# Altium footprint library diodes.PcbLib: 33 footprints (part 1 of 3)
Each footprint in its own frame and in the unit in brackets; x right, y up, seen from the top. Pads: shape width x height; smd on the part's side, far side on the other; paste and mask are expansions set on the pad; w line width, h text height; cw(c..) or ccw(c..) is an arc to the next point about the centre after c.
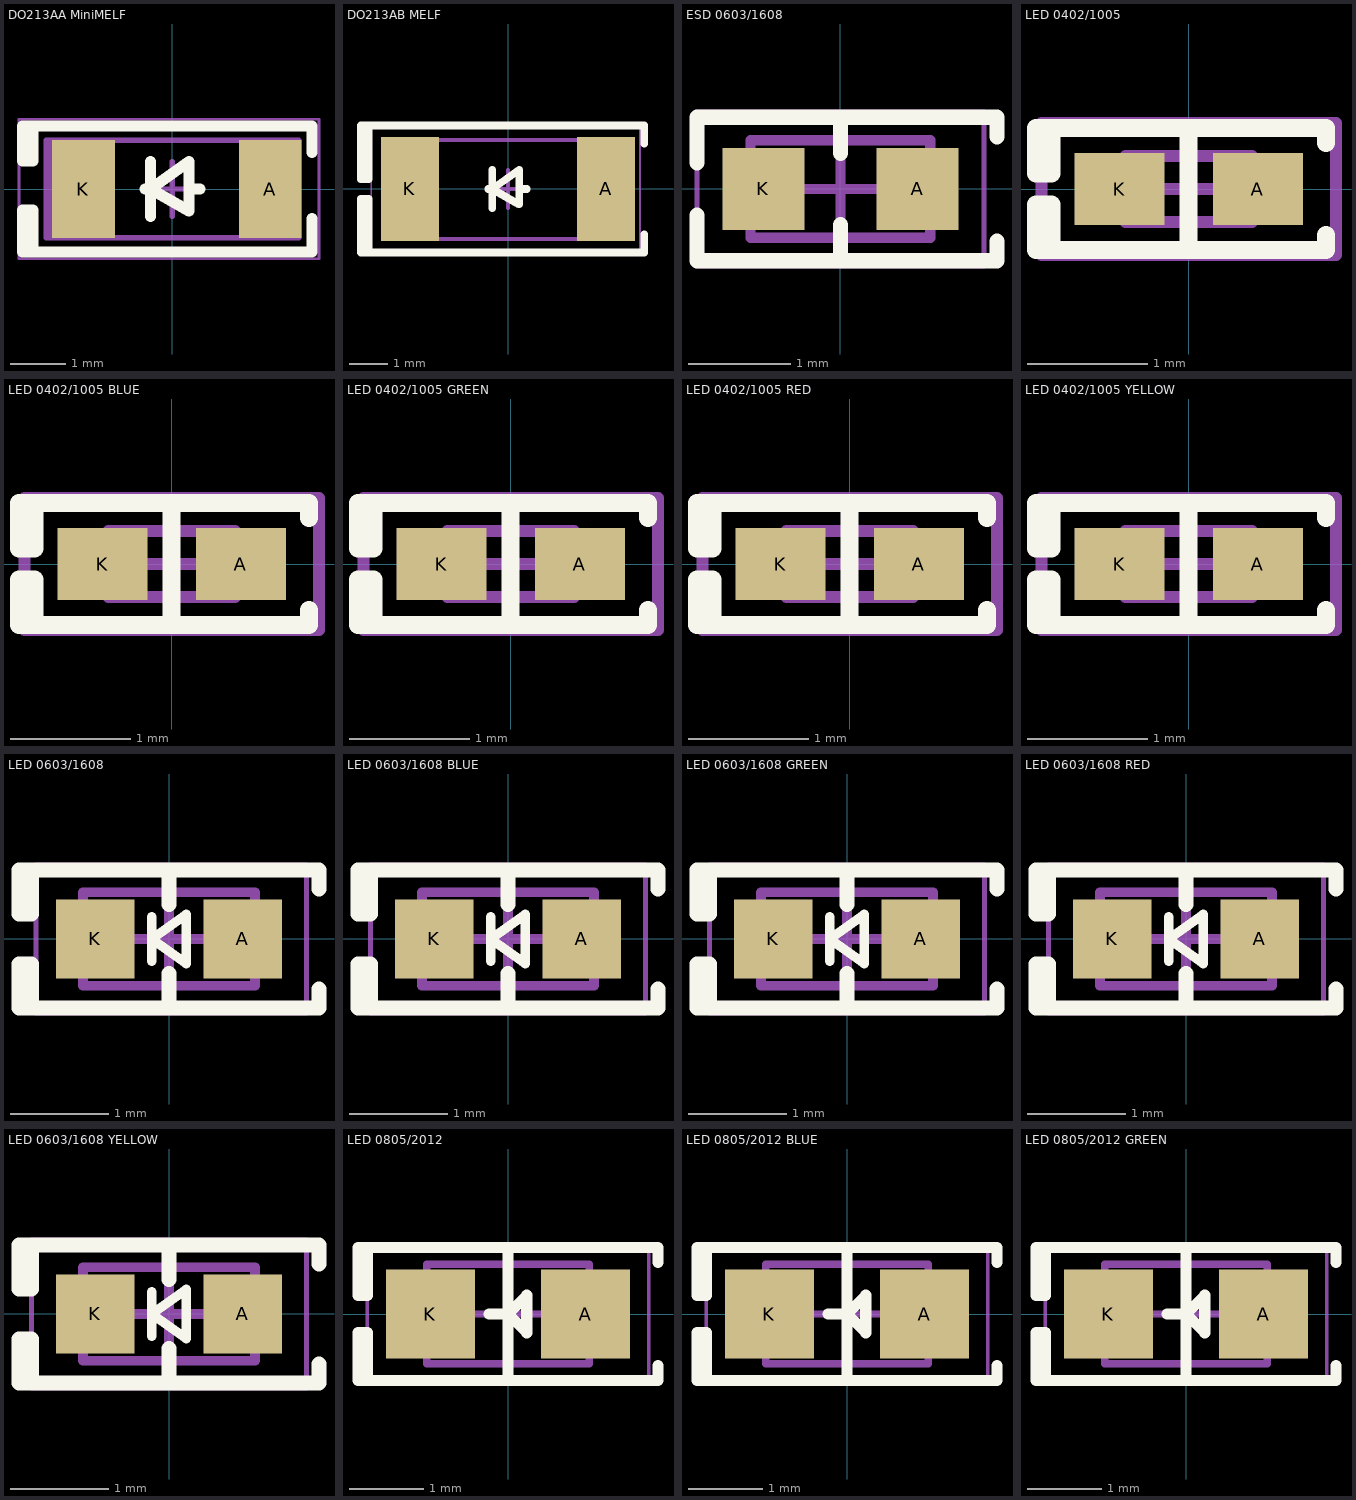
[diagram p0: the footprints below, top view; thin cyan lines are the x and y axes]

## DO213AA MiniMELF [mil]
pads (2):
  rect 45x70 smd: A(70,0) K(-63.86,0)
Top Overlay:
  lines w7.87: -100,-40 -100,-15 -107.64,-15 -107.64,-45 100,-45 100,-21.26 ; -100.01,45 -100.01,20 -107.64,20 -107.64,45 100,45 100,26.26 ; -19.68,0 -15.74,0 ; -15.74,-19.68 -15.74,19.68 ; 11.81,0 19.69,0 ; -15.74,0 11.81,19.68 11.81,-15.75 -15.74,0
Mechanical 13:
  region: -66.19,35 -90.55,35 -90.55,-35 -66.19,-35
  lines w3.94: -90.55,-35 90.55,-35 90.55,35 -90.55,35 -90.55,-35
Mechanical 15:
  lines w1.97: -110,-50 105,-50 105,50 -110,50 -110,-50
  lines w3.94: -19.68,0 19.69,0 ; 0,-19.68 0,19.69
3D body "MiniMelfDiode.stp": height 64.27, standoff 1.48, extent -72.84,-31.39 72.84,31.39

## DO213AB MELF [mm]
pads (2):
  rect 1.5x2.7 smd: A(2.55,0) K(-2.55,0)
Top Overlay:
  lines w0.2: -3.626,-1.651 -3.626,-0.254 -3.82,-0.254 -3.82,-1.651 3.546,-1.651 3.546,-1.175 ; -3.626,1.651 -3.626,0.254 -3.82,0.254 -3.82,1.651 3.546,1.651 3.546,1.175 ; -0.51,0 -0.41,0 ; -0.41,-0.5 -0.41,0.5 ; 0.29,0 0.49,0 ; -0.41,0 0.29,0.5 0.29,-0.4 -0.41,0
Mechanical 13:
  region: -2.118,1.27 -2.737,1.27 -2.737,-1.3 -2.118,-1.3
  lines w0.1: -2.737,-1.3 -2.737,1.27 2.463,1.27 2.463,-1.3 -2.737,-1.3
Mechanical 15:
  lines w0.05: -3.556,-1.651 -3.556,1.651 3.429,1.651 3.429,-1.651 -3.556,-1.651
  lines w0.1: -0.5,0 0.5,0 ; 0,-0.5 0,0.5
3D body "MelfDiode.stp": height 2.64, standoff 0.04, extent -2.737,-1.3 2.463,1.3

## ESD 0603/1608 [mm] "Chip Diode, 2-Leads, Body 1.60x0.80mm, IPC Medium Density"
height 0.45
pads (2):
  rect 0.8x0.8 smd: A(0.75,0) K(-0.75,0)
Top Overlay:
  lines w0.15: -1.397,-0.254 -1.397,-0.7 1.524,-0.7 1.524,-0.508 ; -1.397,0.254 -1.397,0.7 1.524,0.7 1.524,0.508 ; 0,-0.7 0,-0.35 ; 0,0.35 0,0.7
Mechanical 13:
  lines w0.1: -0.875,-0.475 -0.875,0.475 0.875,0.475 0.875,-0.475 -0.875,-0.475
Mechanical 15:
  lines w0.05: -1.397,-0.75 -1.397,0.75 1.397,0.75 1.397,-0.75 -1.397,-0.75
  lines w0.1: -0.475,0 0.475,0 ; 0,-0.475 0,0.475
3D body "FER 0603.STEP": height 0.82, standoff 0, extent -0.8,-0.412 0.8,0.412

## LED 0402/1005 [mm] "Chip Diode, 2-Leads, Body 1.00x0.50mm, IPC Medium Density"
height 0.25
pads (2):
  rect 0.75x0.6 smd: A(0.575,0) K(-0.575,0)
Top Overlay:
  lines w0.15: 0,-0.508 0,0.508 ; 1.143,-0.381 1.143,-0.508 -1.143,-0.508 ; 1.143,0.381 1.143,0.508 -1.143,0.508 ; -1.143,-0.508 -1.27,-0.508 -1.27,-0.127 -1.143,-0.127 -1.143,-0.508 ; -1.143,0.508 -1.27,0.508 -1.27,0.127 -1.143,0.127 -1.143,0.508
Mechanical 13:
  lines w0.1: -0.525,-0.275 -0.525,0.275 0.525,0.275 0.525,-0.275 -0.525,-0.275
Mechanical 15:
  lines w0.1: -0.275,0 0.275,0 ; 0,-0.275 0,0.275 ; -1.225,-0.55 -1.225,0.55 1.225,0.55 1.225,-0.55 -1.225,-0.55
3D body "LED 0402 Lens WHITE.STEP": height 0.21, standoff 0.08, extent -0.35,-0.25 0.35,0.25
3D body "LED 0402 Base WHITE.STEP": height 0.1, standoff 0, extent -0.5,-0.25 0.5,0.25

## LED 0402/1005 BLUE [mm] "Chip Diode, 2-Leads, Body 1.00x0.50mm, IPC Medium Density"
height 0.25
pads (2):
  rect 0.75x0.6 smd: A(0.575,0) K(-0.575,0)
Top Overlay:
  lines w0.15: 0,-0.508 0,0.508 ; 1.143,-0.381 1.143,-0.508 -1.143,-0.508 ; 1.143,0.381 1.143,0.508 -1.143,0.508 ; -1.143,-0.508 -1.27,-0.508 -1.27,-0.127 -1.143,-0.127 -1.143,-0.508 ; -1.143,0.508 -1.27,0.508 -1.27,0.127 -1.143,0.127 -1.143,0.508
Mechanical 13:
  lines w0.1: -0.525,-0.275 -0.525,0.275 0.525,0.275 0.525,-0.275 -0.525,-0.275
Mechanical 15:
  lines w0.1: -0.275,0 0.275,0 ; 0,-0.275 0,0.275 ; -1.225,-0.55 -1.225,0.55 1.225,0.55 1.225,-0.55 -1.225,-0.55
3D body "LED 0402 Lens BLUE.STEP": height 0.21, standoff 0.08, extent -0.35,-0.25 0.35,0.25
3D body "LED 0402 Base BLUE.STEP": height 0.1, standoff 0, extent -0.5,-0.25 0.5,0.25

## LED 0402/1005 GREEN [mm] "Chip Diode, 2-Leads, Body 1.00x0.50mm, IPC Medium Density"
height 0.25
pads (2):
  rect 0.75x0.6 smd: A(0.575,0) K(-0.575,0)
Top Overlay:
  lines w0.15: 0,-0.508 0,0.508 ; 1.143,-0.381 1.143,-0.508 -1.143,-0.508 ; 1.143,0.381 1.143,0.508 -1.143,0.508 ; -1.143,-0.508 -1.143,-0.127 -1.27,-0.127 -1.27,-0.508 -1.143,-0.508 ; -1.143,0.508 -1.143,0.127 -1.27,0.127 -1.27,0.508 -1.143,0.508
Mechanical 13:
  lines w0.1: -0.525,-0.275 0.525,-0.275 0.525,0.275 -0.525,0.275 -0.525,-0.275
Mechanical 15:
  lines w0.1: -0.275,0 0.275,0 ; 0,-0.275 0,0.275 ; -1.225,-0.55 1.225,-0.55 1.225,0.55 -1.225,0.55 -1.225,-0.55
3D body "LED 0402 Base GREEN.STEP": height 0.1, standoff 0, extent -0.5,-0.25 0.5,0.25
3D body "LED 0402 Lens GREEN.STEP": height 0.21, standoff 0.08, extent -0.35,-0.25 0.35,0.25

## LED 0402/1005 RED [mm] "Chip Diode, 2-Leads, Body 1.00x0.50mm, IPC Medium Density"
height 0.25
pads (2):
  rect 0.75x0.6 smd: A(0.575,0) K(-0.575,0)
Top Overlay:
  lines w0.15: 0,-0.508 0,0.508 ; 1.143,-0.381 1.143,-0.508 -1.143,-0.508 ; 1.143,0.381 1.143,0.508 -1.143,0.508 ; -1.143,-0.508 -1.143,-0.127 -1.27,-0.127 -1.27,-0.508 -1.143,-0.508 ; -1.143,0.508 -1.143,0.127 -1.27,0.127 -1.27,0.508 -1.143,0.508
Mechanical 13:
  lines w0.1: -0.525,-0.275 0.525,-0.275 0.525,0.275 -0.525,0.275 -0.525,-0.275
Mechanical 15:
  lines w0.1: -0.275,0 0.275,0 ; 0,-0.275 0,0.275 ; -1.225,-0.55 1.225,-0.55 1.225,0.55 -1.225,0.55 -1.225,-0.55
3D body "LED 0402 Base RED.STEP": height 0.1, standoff 0, extent -0.5,-0.25 0.5,0.25
3D body "LED 0402 Lens RED.STEP": height 0.21, standoff 0.08, extent -0.35,-0.25 0.35,0.25

## LED 0402/1005 YELLOW [mm] "Chip Diode, 2-Leads, Body 1.00x0.50mm, IPC Medium Density"
height 0.25
pads (2):
  rect 0.75x0.6 smd: A(0.575,0) K(-0.575,0)
Top Overlay:
  lines w0.15: 0,-0.508 0,0.508 ; 1.143,-0.381 1.143,-0.508 -1.143,-0.508 ; 1.143,0.381 1.143,0.508 -1.143,0.508 ; -1.143,-0.508 -1.27,-0.508 -1.27,-0.127 -1.143,-0.127 -1.143,-0.508 ; -1.143,0.508 -1.27,0.508 -1.27,0.127 -1.143,0.127 -1.143,0.508
Mechanical 13:
  lines w0.1: -0.525,-0.275 -0.525,0.275 0.525,0.275 0.525,-0.275 -0.525,-0.275
Mechanical 15:
  lines w0.1: -0.275,0 0.275,0 ; 0,-0.275 0,0.275 ; -1.225,-0.55 -1.225,0.55 1.225,0.55 1.225,-0.55 -1.225,-0.55
3D body "LED 0402 Lens YELLOW.STEP": height 0.21, standoff 0.08, extent -0.35,-0.25 0.35,0.25
3D body "LED 0402 Base YELLOW.STEP": height 0.1, standoff 0, extent -0.5,-0.25 0.5,0.25

## LED 0603/1608 [mm] "Chip Diode, 2-Leads, Body 1.60x0.80mm, IPC Medium Density"
height 0.45
pads (2):
  rect 0.8x0.8 smd: A(0.75,0) K(-0.75,0)
Top Overlay:
  lines w0.1: -0.175,-0.225 -0.175,0 ; -0.175,0.225 -0.175,0 ; -0.175,0 0.175,0.25 0.175,0 0.175,-0.25 -0.175,0
  lines w0.15: -1.5,-0.7 1.524,-0.7 1.524,-0.508 ; -1.5,0.7 1.524,0.7 1.524,0.508 ; 0,-0.7 0,-0.35 ; 0,0.35 0,0.7 ; -1.524,-0.7 -1.397,-0.7 -1.397,-0.254 -1.524,-0.254 -1.524,-0.7 ; -1.524,0.254 -1.524,0.7 -1.397,0.7 -1.397,0.254 -1.524,0.254
Mechanical 13:
  lines w0.1: -0.875,-0.475 0.875,-0.475 0.875,0.475 -0.875,0.475 -0.875,-0.475
Mechanical 15:
  lines w0.05: -1.35,-0.75 1.397,-0.75 1.397,0.75 -1.35,0.75 -1.35,-0.75
  lines w0.1: -0.475,0 0.475,0 ; 0,-0.475 0,0.475
3D body "LED 0603 Base WHITE.STEP": height 0.28, standoff 0, extent -0.8,-0.4 0.8,0.4
3D body "LED 0603 Lens WHITE.STEP": height 0.53, standoff 0.18, extent -0.55,-0.4 0.55,0.4

## LED 0603/1608 BLUE [mm] "Chip Diode, 2-Leads, Body 1.60x0.80mm, IPC Medium Density"
height 0.45
pads (2):
  rect 0.8x0.8 smd: A(0.75,0) K(-0.75,0)
Top Overlay:
  lines w0.1: -0.175,-0.225 -0.175,0 ; -0.175,0.225 -0.175,0 ; -0.175,0 0.175,-0.25 0.175,0 0.175,0.25 -0.175,0
  lines w0.15: -1.5,-0.7 1.524,-0.7 1.524,-0.508 ; -1.5,0.7 1.524,0.7 1.524,0.508 ; 0,-0.7 0,-0.35 ; 0,0.35 0,0.7 ; -1.524,-0.7 -1.524,-0.254 -1.397,-0.254 -1.397,-0.7 -1.524,-0.7 ; -1.524,0.254 -1.397,0.254 -1.397,0.7 -1.524,0.7 -1.524,0.254
Mechanical 13:
  lines w0.1: -0.875,-0.475 -0.875,0.475 0.875,0.475 0.875,-0.475 -0.875,-0.475
Mechanical 15:
  lines w0.05: -1.397,-0.75 -1.397,0.75 1.397,0.75 1.397,-0.75 -1.397,-0.75
  lines w0.1: -0.475,0 0.475,0 ; 0,-0.475 0,0.475
3D body "LED 0603 Lens BLUE.STEP": height 0.53, standoff 0.18, extent -0.55,-0.4 0.55,0.4
3D body "LED 0603 Base BLUE.STEP": height 0.28, standoff 0, extent -0.8,-0.4 0.8,0.4

## LED 0603/1608 GREEN [mm] "Chip Diode, 2-Leads, Body 1.60x0.80mm, IPC Medium Density"
height 0.45
pads (2):
  rect 0.8x0.8 smd: A(0.75,0) K(-0.75,0)
Top Overlay:
  lines w0.1: -0.175,-0.225 -0.175,0 ; -0.175,0.225 -0.175,0 ; -0.175,0 0.175,-0.25 0.175,0 0.175,0.25 -0.175,0
  lines w0.15: -1.5,-0.7 1.524,-0.7 1.524,-0.508 ; -1.5,0.7 1.524,0.7 1.524,0.508 ; 0,-0.7 0,-0.35 ; 0,0.35 0,0.7 ; -1.524,-0.7 -1.397,-0.7 -1.397,-0.254 -1.524,-0.254 -1.524,-0.7 ; -1.524,0.254 -1.524,0.7 -1.397,0.7 -1.397,0.254 -1.524,0.254
Mechanical 13:
  lines w0.1: -0.875,-0.475 0.875,-0.475 0.875,0.475 -0.875,0.475 -0.875,-0.475
Mechanical 15:
  lines w0.05: -1.397,-0.75 1.397,-0.75 1.397,0.75 -1.397,0.75 -1.397,-0.75
  lines w0.1: -0.475,0 0.475,0 ; 0,-0.475 0,0.475
3D body "LED 0603 Base GREEN.STEP": height 0.28, standoff 0, extent -0.8,-0.4 0.8,0.4
3D body "LED 0603 Lens GREEN.STEP": height 0.53, standoff 0.18, extent -0.55,-0.4 0.55,0.4

## LED 0603/1608 RED [mm] "Chip Diode, 2-Leads, Body 1.60x0.80mm, IPC Medium Density"
height 0.45
pads (2):
  rect 0.8x0.8 smd: A(0.75,0) K(-0.75,0)
Top Overlay:
  lines w0.1: -0.175,-0.225 -0.175,0 ; -0.175,0.225 -0.175,0 ; -0.175,0 0.175,-0.25 0.175,0 0.175,0.25 -0.175,0
  lines w0.15: -1.5,-0.7 1.524,-0.7 1.524,-0.508 ; -1.5,0.7 1.524,0.7 1.524,0.508 ; 0,-0.7 0,-0.35 ; 0,0.35 0,0.7 ; -1.524,-0.7 -1.524,-0.254 -1.397,-0.254 -1.397,-0.7 -1.524,-0.7 ; -1.524,0.254 -1.397,0.254 -1.397,0.7 -1.524,0.7 -1.524,0.254
Mechanical 13:
  lines w0.1: -0.875,-0.475 -0.875,0.475 0.875,0.475 0.875,-0.475 -0.875,-0.475
Mechanical 15:
  lines w0.05: -1.397,-0.75 -1.397,0.75 1.397,0.75 1.397,-0.75 -1.397,-0.75
  lines w0.1: -0.475,0 0.475,0 ; 0,-0.475 0,0.475
3D body "LED 0603 Lens RED.STEP": height 0.53, standoff 0.18, extent -0.55,-0.4 0.55,0.4
3D body "LED 0603 Base RED.STEP": height 0.28, standoff 0, extent -0.8,-0.4 0.8,0.4

## LED 0603/1608 YELLOW [mm] "Chip Diode, 2-Leads, Body 1.60x0.80mm, IPC Medium Density"
height 0.45
pads (2):
  rect 0.8x0.8 smd: A(0.75,0) K(-0.75,0)
Top Overlay:
  lines w0.1: -0.175,-0.225 -0.175,0 ; -0.175,0.225 -0.175,0 ; -0.175,0 0.175,0.25 0.175,0 0.175,-0.25 -0.175,0
  lines w0.15: -1.5,-0.7 1.524,-0.7 1.524,-0.508 ; -1.4,0.7 1.524,0.7 1.524,0.508 ; 0,-0.7 0,-0.35 ; 0,0.35 0,0.7 ; -1.524,-0.7 -1.397,-0.7 -1.397,-0.254 -1.524,-0.254 -1.524,-0.7 ; -1.524,0.254 -1.524,0.7 -1.397,0.7 -1.397,0.254 -1.524,0.254
Mechanical 13:
  lines w0.1: -0.875,-0.475 0.875,-0.475 0.875,0.475 -0.875,0.475 -0.875,-0.475
Mechanical 15:
  lines w0.05: -1.397,-0.75 1.397,-0.75 1.397,0.75 -1.397,0.75 -1.397,-0.75
  lines w0.1: -0.475,0 0.475,0 ; 0,-0.475 0,0.475
3D body "LED 0603 Base YELLOW.STEP": height 0.28, standoff 0, extent -0.8,-0.4 0.8,0.4
3D body "LED 0603 Lens YELLOW.STEP": height 0.53, standoff 0.18, extent -0.55,-0.4 0.55,0.4

## LED 0805/2012 [mm] "Chip Diode, 2-Leads, Body 2.00x1.25mm, IPC Medium Density"
height 0.7
pads (2):
  rect 1.2x1.2 smd: A(1.05,0) K(-1.05,0)
Top Overlay:
  lines w0.15: -0.254,0 0,0 ; 0,-0.9 0,0.9 ; 2.032,-0.7 2.032,-0.9 -1.905,-0.9 ; 2.032,0.7 2.032,0.9 -1.905,0.9 ; -1.905,-0.9 -1.905,-0.254 -2.032,-0.254 -2.032,-0.9 -1.905,-0.9 ; -1.905,0.9 -1.905,0.254 -2.032,0.254 -2.032,0.9 -1.905,0.9 ; 0,0 0.254,0.254 0.254,-0.254 0,0
Mechanical 13:
  lines w0.1: -1.1,-0.675 1.1,-0.675 1.1,0.675 -1.1,0.675 -1.1,-0.675
Mechanical 15:
  lines w0.05: -1.905,-0.95 1.905,-0.95 1.905,0.95 -1.905,0.95 -1.905,-0.95
  lines w0.1: -0.5,0 0.5,0 ; 0,-0.5 0,0.5
3D body "LED 0805 Base WHITE.STEP": height 0.4, standoff 0, extent -1,-0.625 1,0.625
3D body "LED 0805 Lens WHITE.STEP": height 0.9, standoff 0.3, extent -0.65,-0.625 0.65,0.625

## LED 0805/2012 BLUE [mm] "Chip Diode, 2-Leads, Body 2.00x1.25mm, IPC Medium Density"
height 0.7
pads (2):
  rect 1.2x1.2 smd: A(1.05,0) K(-1.05,0)
Top Overlay:
  lines w0.15: -0.254,0 0,0 ; 0,-0.9 0,0.9 ; 2.032,-0.7 2.032,-0.9 -1.905,-0.9 ; 2.032,0.7 2.032,0.9 -1.905,0.9 ; -1.905,-0.9 -1.905,-0.254 -2.032,-0.254 -2.032,-0.9 -1.905,-0.9 ; -1.905,0.9 -1.905,0.254 -2.032,0.254 -2.032,0.9 -1.905,0.9 ; 0,0 0.254,0.254 0.254,-0.254 0,0
Mechanical 13:
  lines w0.1: -1.1,-0.675 1.1,-0.675 1.1,0.675 -1.1,0.675 -1.1,-0.675
Mechanical 15:
  lines w0.05: -1.905,-0.95 1.905,-0.95 1.905,0.95 -1.905,0.95 -1.905,-0.95
  lines w0.1: -0.5,0 0.5,0 ; 0,-0.5 0,0.5
3D body "LED 0805 Base BLUE.STEP": height 0.4, standoff 0, extent -1,-0.625 1,0.625
3D body "LED 0805 Lens BLUE.STEP": height 0.9, standoff 0.3, extent -0.65,-0.625 0.65,0.625

## LED 0805/2012 GREEN [mm] "Chip Diode, 2-Leads, Body 2.00x1.25mm, IPC Medium Density"
height 0.7
pads (2):
  rect 1.2x1.2 smd: A(1.05,0) K(-1.05,0)
Top Overlay:
  lines w0.15: -0.254,0 0,0 ; 0,-0.9 0,0.9 ; 2.032,-0.7 2.032,-0.9 -1.905,-0.9 ; 2.032,0.7 2.032,0.9 -1.905,0.9 ; -1.905,-0.9 -1.905,-0.254 -2.032,-0.254 -2.032,-0.9 -1.905,-0.9 ; -1.905,0.9 -1.905,0.254 -2.032,0.254 -2.032,0.9 -1.905,0.9 ; 0,0 0.254,-0.254 0.254,0.254 0,0
Mechanical 13:
  lines w0.1: -1.1,-0.675 1.1,-0.675 1.1,0.675 -1.1,0.675 -1.1,-0.675
Mechanical 15:
  lines w0.05: -1.905,-0.95 1.905,-0.95 1.905,0.95 -1.905,0.95 -1.905,-0.95
  lines w0.1: -0.5,0 0.5,0 ; 0,-0.5 0,0.5
3D body "LED 0805 Base GREEN.STEP": height 0.4, standoff 0, extent -1,-0.625 1,0.625
3D body "LED 0805 Lens GREEN.STEP": height 0.9, standoff 0.3, extent -0.65,-0.625 0.65,0.625